# EAGLE library part ESP32-C3-WROOM2 (library JLB6_Processor)
ESP32-C3-WROOM2 module with pcb antenna
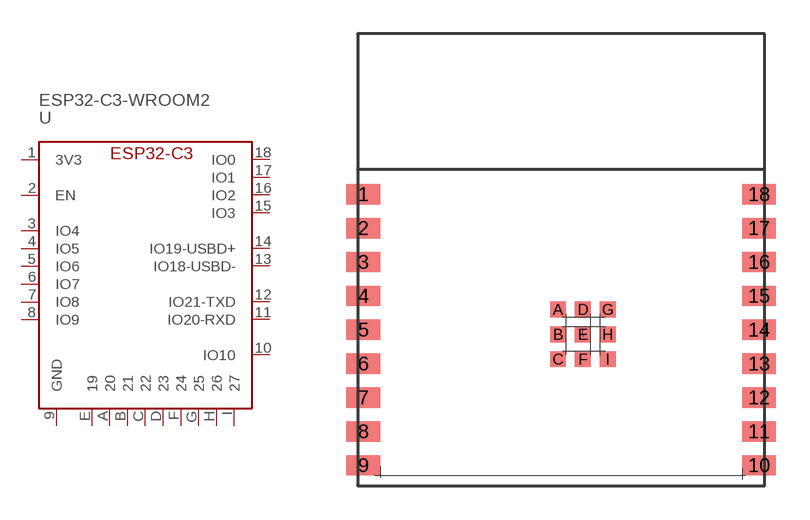
[diagram p33: symbol with the pads of ESP32-C3-WROOM2; footprint ESP32-C3-WROOM2]

Designator prefix U

## ESP32-C3-WROOM2C3-WROOM2  [ESP32-C3-WROOM2]
1  3V3  pwr
2  EN  in
3  IO4
4  IO5
5  IO6
6  IO7
7  IO8
8  IO9
9  GND  pwr
10  IO10
11  IO20-RXD
12  IO21-TXD
13  IO18-USBD-
14  IO19-USBD+
15  IO3
16  IO2
17  IO1
18  IO0
A  20  pas
B  21  pas
C  22  pas
D  23  pas
E  19  pas
F  24  pas
G  25  pas
H  26  pas
I  27  pas

## Footprint ESP32-C3-WROOM2 (pad centres in mm)
smd 1.5 x 0.9: 1 0.25,12.9; 2 0.25,11.4; 3 0.25,9.9; 4 0.25,8.4; 5 0.25,6.9; 6 0.25,5.4; 7 0.25,3.9; 8 0.25,2.4; 9 0.25,0.9; 10 17.75,0.9; 11 17.75,2.4; 12 17.75,3.9; 13 17.75,5.4; 14 17.75,6.9; 15 17.75,8.4; 16 17.75,9.9; 17 17.75,11.4; 18 17.75,12.9
smd 0.7 x 0.7: A 8.86,7.8; B 8.86,6.7; C 8.86,5.6; D 9.96,7.8; E 9.96,6.7; F 9.96,5.6; G 11.06,7.8; H 11.06,6.7; I 11.06,5.6